# Altium footprint library mva_General.PcbLib: 34 footprints (part 2 of 3)
Each footprint in its own frame and in the unit in brackets; x right, y up, seen from the top. Pads: shape width x height; smd on the part's side, far side on the other; paste and mask are expansions set on the pad; w line width, h text height; cw(c..) or ccw(c..) is an arc to the next point about the centre after c.
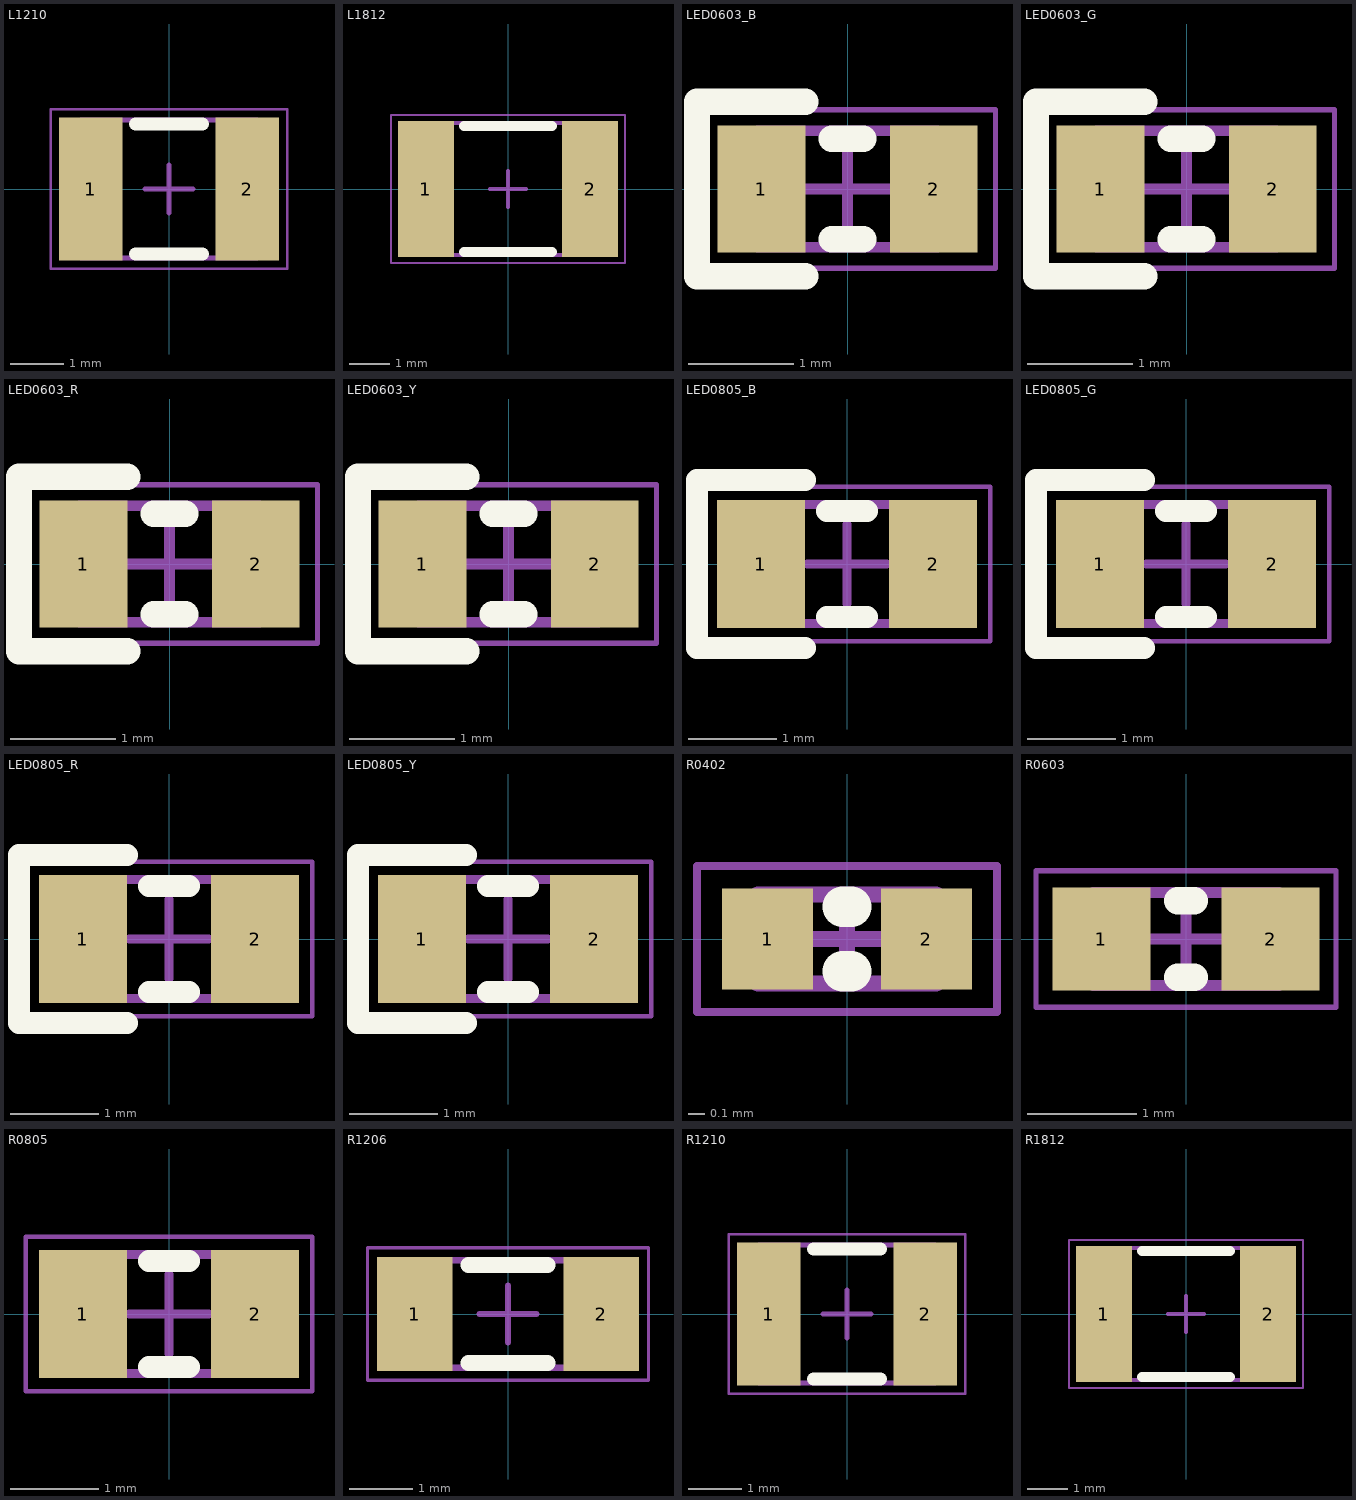
[diagram p1: the footprints below, top view; thin cyan lines are the x and y axes]

## L1210 [mm] "Inductor SMD 1210."
height 0.9
pads (2):
  rect 1.2x2.7 smd: 1(-1.475,0) 2(1.475,0)
Top Overlay:
  lines w0.25: -0.625,-1.225 0.625,-1.225 ; -0.625,1.225 0.625,1.225
Mechanical 13:
  lines w0.1: -1.65,-1.3 -1.65,1.3 1.65,1.3 1.65,-1.3 -1.65,-1.3
Mechanical 15:
  lines w0.05: -2.225,-1.5 2.225,-1.5 2.225,1.5 -2.225,1.5 -2.225,-1.5
  lines w0.1: -0.45,0 0.45,0 ; 0,-0.45 0,0.45
3D body "L1210.stp": height 0.96, standoff 0.01, extent -1.6,-1.25 1.6,1.25

## L1812 [mm] "Inductor SMD 1812."
height 0.9
pads (2):
  rect 1.4x3.4 smd: 1(-2.05,0) 2(2.05,0)
Top Overlay:
  lines w0.25: -1.1,-1.575 1.1,-1.575 ; -1.1,1.575 1.1,1.575
Mechanical 13:
  lines w0.1: -2.3,-1.65 2.3,-1.65 2.3,1.65 -2.3,1.65 -2.3,-1.65
Mechanical 15:
  lines w0.05: -2.925,-1.85 -2.925,1.85 2.925,1.85 2.925,-1.85 -2.925,-1.85
  lines w0.1: -0.45,0 0.45,0 ; 0,-0.45 0,0.45
3D body "L1812.stp": height 1.26, standoff 0.01, extent -2.25,-1.6 2.25,1.6

## LED0603_B [mm] "Led blue SMD 0603."
pads (2):
  rect 0.83x1.2 smd: 1(-0.815,0) 2(0.815,0)
Top Overlay:
  lines w0.25: -0.4,-0.825 -1.425,-0.825 -1.425,0.825 -0.4,0.825 ; -0.15,-0.475 0.15,-0.475 ; -0.15,0.475 0.15,0.475
Mechanical 13:
  lines w0.1: -0.85,-0.55 0.85,-0.55 0.85,0.55 -0.85,0.55 -0.85,-0.55
Mechanical 15:
  lines w0.05: -1.375,-0.75 -1.375,0.75 1.4,0.75 1.4,-0.75 -1.375,-0.75
  lines w0.1: -0.45,0 0.45,0 ; 0,-0.45 0,0.45
3D body "LED0603_BLUE.STEP": height 0.88, standoff 0, extent -0.808,-0.5 0.808,0.5

## LED0603_G [mm] "Led green SMD 0603."
pads (2):
  rect 0.83x1.2 smd: 1(-0.815,0) 2(0.815,0)
Top Overlay:
  lines w0.25: -0.4,-0.825 -1.425,-0.825 -1.425,0.825 -0.4,0.825 ; -0.15,-0.475 0.15,-0.475 ; -0.15,0.475 0.15,0.475
Mechanical 13:
  lines w0.1: -0.85,-0.55 -0.85,0.55 0.85,0.55 0.85,-0.55 -0.85,-0.55
Mechanical 15:
  lines w0.05: -1.375,-0.75 1.4,-0.75 1.4,0.75 -1.375,0.75 -1.375,-0.75
  lines w0.1: -0.45,0 0.45,0 ; 0,-0.45 0,0.45
3D body "LED0603_GREEN.STEP": height 0.88, standoff 0, extent -0.808,-0.5 0.808,0.5

## LED0603_R [mm] "Led red SMD 0603."
pads (2):
  rect 0.83x1.2 smd: 1(-0.815,0) 2(0.815,0)
Top Overlay:
  lines w0.25: -0.4,-0.825 -1.425,-0.825 -1.425,0.825 -0.4,0.825 ; -0.15,-0.475 0.15,-0.475 ; -0.15,0.475 0.15,0.475
Mechanical 13:
  lines w0.1: -0.85,-0.55 -0.85,0.55 0.85,0.55 0.85,-0.55 -0.85,-0.55
Mechanical 15:
  lines w0.05: -1.375,-0.75 1.4,-0.75 1.4,0.75 -1.375,0.75 -1.375,-0.75
  lines w0.1: -0.45,0 0.45,0 ; 0,-0.45 0,0.45
3D body "LED0603_RED.STEP": height 0.88, standoff 0, extent -0.808,-0.5 0.808,0.5

## LED0603_Y [mm] "Led yellow SMD 0603."
pads (2):
  rect 0.83x1.2 smd: 1(-0.815,0) 2(0.815,0)
Top Overlay:
  lines w0.25: -0.4,-0.825 -1.425,-0.825 -1.425,0.825 -0.4,0.825 ; -0.15,-0.475 0.15,-0.475 ; -0.15,0.475 0.15,0.475
Mechanical 13:
  lines w0.1: -0.85,-0.55 0.85,-0.55 0.85,0.55 -0.85,0.55 -0.85,-0.55
Mechanical 15:
  lines w0.05: -1.375,-0.75 -1.375,0.75 1.4,0.75 1.4,-0.75 -1.375,-0.75
  lines w0.1: -0.45,0 0.45,0 ; 0,-0.45 0,0.45
3D body "LED0603_YELLOW.STEP": height 0.88, standoff 0, extent -0.808,-0.5 0.808,0.5

## LED0805_B [mm] "Led blue SMD 0805."
height 0.9
pads (2):
  rect 1x1.45 smd: 1(-0.975,0) 2(0.975,0)
Top Overlay:
  lines w0.25: -0.475,-0.95 -1.7,-0.95 ; -0.475,0.95 -1.7,0.95 -1.7,-0.95 ; -0.225,-0.6 0.225,-0.6 ; -0.225,0.6 0.225,0.6 ; -1.7,-0.95 -1.7,-0.95
Mechanical 13:
  lines w0.1: -1.05,-0.675 1.05,-0.675 1.05,0.675 -1.05,0.675 -1.05,-0.675
Mechanical 15:
  lines w0.05: -1.625,-0.875 1.625,-0.875 1.625,0.875 -1.625,0.875 -1.625,-0.875
  lines w0.1: -0.45,0 0.45,0 ; 0,-0.45 0,0.45
3D body "LED0805_BLUE.STEP": height 1.1, standoff 0, extent -1.01,-0.625 1.01,0.625

## LED0805_G [mm] "Led green SMD 0805."
height 0.9
pads (2):
  rect 1x1.45 smd: 1(-0.975,0) 2(0.975,0)
Top Overlay:
  lines w0.25: -0.475,-0.95 -1.7,-0.95 ; -0.475,0.95 -1.7,0.95 -1.7,-0.95 ; -0.225,-0.6 0.225,-0.6 ; -0.225,0.6 0.225,0.6 ; -1.7,-0.95 -1.7,-0.95
Mechanical 13:
  lines w0.1: -1.05,-0.675 -1.05,0.675 1.05,0.675 1.05,-0.675 -1.05,-0.675
Mechanical 15:
  lines w0.05: -1.625,-0.875 -1.625,0.875 1.625,0.875 1.625,-0.875 -1.625,-0.875
  lines w0.1: -0.45,0 0.45,0 ; 0,-0.45 0,0.45
3D body "LED0805_GREEN.STEP": height 1.1, standoff 0, extent -1.01,-0.625 1.01,0.625

## LED0805_R [mm] "Led red SMD 0805."
height 0.9
pads (2):
  rect 1x1.45 smd: 1(-0.975,0) 2(0.975,0)
Top Overlay:
  lines w0.25: -0.475,-0.95 -1.7,-0.95 ; -0.475,0.95 -1.7,0.95 -1.7,-0.95 ; -0.225,-0.6 0.225,-0.6 ; -0.225,0.6 0.225,0.6 ; -1.7,-0.95 -1.7,-0.95
Mechanical 13:
  lines w0.1: -1.05,-0.675 -1.05,0.675 1.05,0.675 1.05,-0.675 -1.05,-0.675
Mechanical 15:
  lines w0.05: -1.625,-0.875 -1.625,0.875 1.625,0.875 1.625,-0.875 -1.625,-0.875
  lines w0.1: -0.45,0 0.45,0 ; 0,-0.45 0,0.45
3D body "LED0805_RED.STEP": height 1.1, standoff 0, extent -1.01,-0.625 1.01,0.625

## LED0805_Y [mm] "Led yellow SMD 0805."
height 0.9
pads (2):
  rect 1x1.45 smd: 1(-0.975,0) 2(0.975,0)
Top Overlay:
  lines w0.25: -0.475,-0.95 -1.7,-0.95 ; -0.475,0.95 -1.7,0.95 -1.7,-0.95 ; -0.225,-0.6 0.225,-0.6 ; -0.225,0.6 0.225,0.6 ; -1.7,-0.95 -1.7,-0.95
Mechanical 13:
  lines w0.1: -1.05,-0.675 1.05,-0.675 1.05,0.675 -1.05,0.675 -1.05,-0.675
Mechanical 15:
  lines w0.05: -1.625,-0.875 1.625,-0.875 1.625,0.875 -1.625,0.875 -1.625,-0.875
  lines w0.1: -0.45,0 0.45,0 ; 0,-0.45 0,0.45
3D body "LED0805_YELLOW.STEP": height 1.1, standoff 0, extent -1.01,-0.625 1.01,0.625

## R0402 [mm] "Resistor SMD 0402."
height 0.9
pads (2):
  rect 0.56x0.62 smd: 1(-0.49,0) 2(0.49,0)
Top Overlay:
  lines w0.25: -0.025,-0.2 0.025,-0.2 ; -0.025,0.2 0.025,0.2
Mechanical 13:
  lines w0.1: -0.55,-0.275 -0.55,0.275 0.55,0.275 0.55,-0.275 -0.55,-0.275
Mechanical 15:
  lines w0.05: -0.925,-0.45 0.925,-0.45 0.925,0.45 -0.925,0.45 -0.925,-0.45
  lines w0.1: -0.225,0 0.225,0 ; 0,-0.2 0,0.2
3D body "R_0402_1005Metric.step": height 0.35, standoff 0, extent -0.5,-0.25 0.5,0.25

## R0603 [mm] "Resistor SMD 0603."
height 0.9
pads (2):
  rect 0.9x0.94 smd: 1(-0.775,0) 2(0.775,0)
Top Overlay:
  lines w0.25: -0.075,-0.35 0.075,-0.35 ; -0.075,0.35 0.075,0.35
Mechanical 13:
  lines w0.1: -0.85,-0.425 -0.85,0.425 0.85,0.425 0.85,-0.425 -0.85,-0.425
Mechanical 15:
  lines w0.05: -1.375,-0.625 -1.375,0.625 1.375,0.625 1.375,-0.625 -1.375,-0.625
  lines w0.1: -0.325,0 0.325,0 ; 0,-0.35 0,0.35
3D body "R_0603_1608Metric.step": height 0.45, standoff 0, extent -0.8,-0.4 0.8,0.4

## R0805 [mm] "Resistor SMD 0805."
height 0.9
pads (2):
  rect 1x1.45 smd: 1(-0.975,0) 2(0.975,0)
Top Overlay:
  lines w0.25: -0.225,-0.6 0.225,-0.6 ; -0.225,0.6 0.225,0.6
Mechanical 13:
  lines w0.1: -1.05,-0.675 -1.05,0.675 1.05,0.675 1.05,-0.675 -1.05,-0.675
Mechanical 15:
  lines w0.05: -1.625,-0.875 -1.625,0.875 1.625,0.875 1.625,-0.875 -1.625,-0.875
  lines w0.1: -0.45,0 0.45,0 ; 0,-0.45 0,0.45
3D body "R_0805_2012Metric.step": height 0.45, standoff 0, extent -1,-0.6 1,0.6

## R1206 [mm] "Resistor SMD 1206."
height 0.9
pads (2):
  rect 1.2x1.8 smd: 1(-1.475,0) 2(1.475,0)
Top Overlay:
  lines w0.25: -0.625,-0.775 0.625,-0.775 ; -0.625,0.775 0.625,0.775
Mechanical 13:
  lines w0.1: -1.65,-0.85 -1.65,0.85 1.65,0.85 1.65,-0.85 -1.65,-0.85
Mechanical 15:
  lines w0.05: -2.225,-1.05 2.225,-1.05 2.225,1.05 -2.225,1.05 -2.225,-1.05
  lines w0.1: -0.45,0 0.45,0 ; 0,-0.45 0,0.45
3D body "R_1206_3216Metric.step": height 0.55, standoff 0, extent -1.6,-0.8 1.6,0.8

## R1210 [mm] "Resistor SMD 1210."
height 0.9
pads (2):
  rect 1.2x2.7 smd: 1(-1.475,0) 2(1.475,0)
Top Overlay:
  lines w0.25: -0.625,-1.225 0.625,-1.225 ; -0.625,1.225 0.625,1.225
Mechanical 13:
  lines w0.1: -1.65,-1.3 1.65,-1.3 1.65,1.3 -1.65,1.3 -1.65,-1.3
Mechanical 15:
  lines w0.05: -2.225,-1.5 -2.225,1.5 2.225,1.5 2.225,-1.5 -2.225,-1.5
  lines w0.1: -0.45,0 0.45,0 ; 0,-0.45 0,0.45
3D body "R_1210_3225Metric.step": height 0.55, standoff 0, extent -1.6,-1.25 1.6,1.25

## R1812 [mm] "Resistor SMD 1812."
height 0.9
pads (2):
  rect 1.4x3.4 smd: 1(-2.05,0) 2(2.05,0)
Top Overlay:
  lines w0.25: -1.1,-1.575 1.1,-1.575 ; -1.1,1.575 1.1,1.575
Mechanical 13:
  lines w0.1: -2.3,-1.65 2.3,-1.65 2.3,1.65 -2.3,1.65 -2.3,-1.65
Mechanical 15:
  lines w0.05: -2.925,-1.85 -2.925,1.85 2.925,1.85 2.925,-1.85 -2.925,-1.85
  lines w0.1: -0.45,0 0.45,0 ; 0,-0.45 0,0.45
3D body "R_1812_4532Metric.step": height 0.6, standoff 0, extent -2.25,-1.6 2.25,1.6